# Altium schematic symbol library RF Amplifier.SchLib: 14 symbols
Pins are listed as number, name and electrical type; pins without a type are passive.

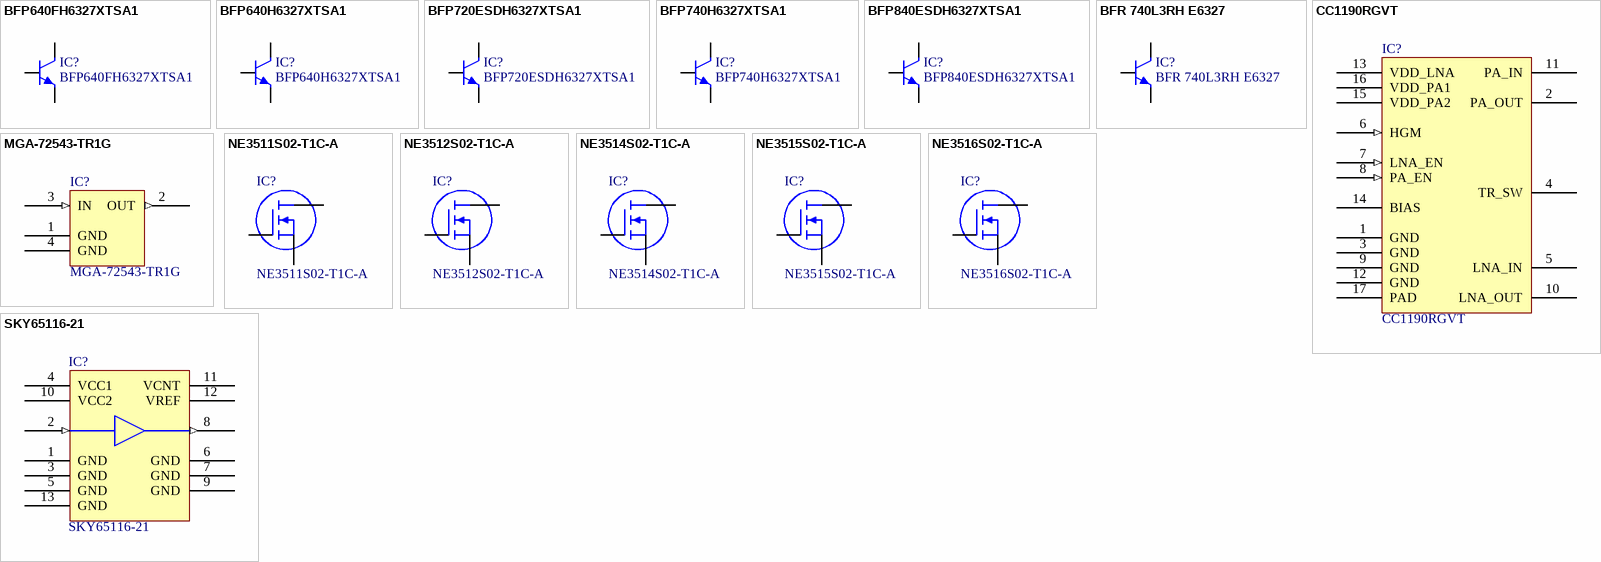
[diagram p0: symbols BFP640FH6327XTSA1 to SKY65116-21]

## BFP640FH6327XTSA1
designator IC?
TRANS RF NPN 4.5V 50MA 4TSFP; Manufacturer: Infineon Technologies; Power - Max: 200mW; Part Number: BFP640FH6327XTSA1; PartId: 9773; Supplier 1: Digi-Key; Supplier Part Number 1: BFP640FH6327XTSA1TR-ND; ComponentLink1Description: Datasheet; ComponentLink1URL: http://www.infineon.com/dgdl/bfp640f.pdf?folderId=db3a30431400ef68011425b291f205c5&fileId=db3a30431400ef6801142744b3d90716; ComponentLink2Description: Digi-Key Listing; ComponentLink2URL: http://www.digikey.com/product-detail/en/infineon-technologies/BFP640FH6327XTSA1/BFP640FH6327XTSA1TR-ND/2337784; Device Package: 4-SMD, Flat Leads; Price: 0.3659; Type: RF Transistors (BJT); Series: -
footprint INFINEON TSFP-4
pins: 1 B, 2 E, 3 C, 4 E

## BFP640H6327XTSA1
designator IC?
TRANS RF NPN 4V 50MA SOT343; Manufacturer: Infineon Technologies; Voltage - Collector Emitter Breakdown (Max): 4.5V; Frequency - Transition: 40GHz; Noise Figure (dB Typ @ f): 0.65dB ~ 1.2dB @ 1.8GHz ~ 6GHz; Gain: 12.5dB; Power - Max: 200mW; DC Current Gain (hFE)(min) @ Ic, Vce: 110 @ 30mA, 3V; Part Number: BFP640H6327XTSA1; PartId: 9774; Supplier 1: Digi-Key; Supplier Part Number 1: BFP640H6327XTSA1TR-ND; ComponentLink1Description: Datasheet; ComponentLink1URL: http://www.infineon.com/dgdl/bfp640.pdf?folderId=db3a30431400ef68011425b291f205c5&fileId=db3a30431400ef6801142747c1a1071d; ComponentLink2Description: Digi-Key Listing; ComponentLink2URL: http://www.digikey.com/product-detail/en/infineon-technologies/BFP640H6327XTSA1/BFP640H6327XTSA1TR-ND/2337782; Device Package: SC-82A, SOT-343; Price: 0.364; Type: RF Transistors (BJT); Series: -; Transistor Type: NPN; Current - Collector (Ic)(Max): 50mA
footprint INFINEON SOT-343-4
pins: 1 B, 2 E, 3 C, 4 E

## BFP720ESDH6327XTSA1
designator IC?
TRANS RF NPN 43GHZ 4.7V SOT343; Manufacturer: Infineon Technologies; Noise Figure (dB Typ @ f): 0.55dB ~ 1.55dB @ 150MHz ~ 10GHz; Gain: 11dB ~ 30.5dB; Power - Max: 100mW; DC Current Gain (hFE)(min) @ Ic, Vce: 160 @ 15mA, 3V; Current - Collector (Ic)(Max): 30mA; Part Number: BFP720ESDH6327XTSA1; PartId: 9775; Supplier 1: Digi-Key; Supplier Part Number 1: BFP720ESDH6327XTSA1TR-ND; ComponentLink1Description: Datasheet; ComponentLink1URL: http://media.digikey.com/pdf/Data%20Sheets/Infineon%20PDFs/BFP720ESD.pdf; ComponentLink2Description: Digi-Key Listing; ComponentLink2URL: http://www.digikey.com/product-detail/en/infineon-technologies/BFP720ESDH6327XTSA1/BFP720ESDH6327XTSA1TR-ND/2409952; Device Package: SC-82A, SOT-343; Price: 0.378; Type: RF Transistors (BJT); Series: -; Transistor Type: NPN; Voltage - Collector Emitter Breakdown (Max): 4.7V; Frequency - Transition: 43GHz
footprint INFINEON SOT-343-4
pins: 1 B, 2 E, 3 C, 4 E

## BFP740H6327XTSA1
designator IC?
TRANS RF NPN 42GHZ 4.7V SOT343; Manufacturer: Infineon Technologies; Noise Figure (dB Typ @ f): 0.5dB ~ 0.85dB @ 1.8GHz ~ 6GHz; Gain: 27dB; Power - Max: 160mW; DC Current Gain (hFE)(min) @ Ic, Vce: 160 @ 25mA, 3V; Current - Collector (Ic)(Max): 30mA; Part Number: BFP740H6327XTSA1; PartId: 9776; Supplier 1: Digi-Key; Supplier Part Number 1: BFP740H6327XTSA1TR-ND; ComponentLink1Description: Datasheet; ComponentLink1URL: http://www.infineon.com/dgdl/bfp740.pdf?folderId=db3a30431400ef68011425b291f205c5&fileId=db3a30431400ef6801142740c849070c; ComponentLink2Description: Digi-Key Listing; ComponentLink2URL: http://www.digikey.com/product-detail/en/infineon-technologies/BFP740H6327XTSA1/BFP740H6327XTSA1TR-ND/2410206; Device Package: SC-82A, SOT-343; Price: 0.3335; Type: RF Transistors (BJT); Series: -; Transistor Type: NPN; Voltage - Collector Emitter Breakdown (Max): 4.7V; Frequency - Transition: 42GHz
footprint INFINEON SOT-343-4
pins: 1 B, 2 E, 3 C, 4 E

## BFP840ESDH6327XTSA1
designator IC?
IC TRANSISTOR RF NPN SOT343-4; Manufacturer: Infineon Technologies; Voltage - Collector Emitter Breakdown (Max): 2.25V; Frequency - Transition: 80GHz; Noise Figure (dB Typ @ f): 0.85dB @ 5.5GHz; Gain: 18.5dB; Power - Max: 75mW; DC Current Gain (hFE)(min) @ Ic, Vce: 150 @ 10mA, 1.8V; Current - Collector (Ic)(Max): 35mA; Part Number: BFP840ESDH6327XTSA1; PartId: 9777; Supplier 1: Digi-Key; Supplier Part Number 1: BFP840ESDH6327XTSA1TR-ND; ComponentLink1Description: Datasheet; ComponentLink1URL: http://www.infineon.com/dgdl/Infineon_Robust_WiFi_SiGe_LNA_BFP840ESD_Rev1_1.pdf?folderId=db3a30431f848401011fcbf2ab4c04c4&fileId=db3a304336ca04c90136e88a4d5f35b7; ComponentLink2Description: Digi-Key Listing; ComponentLink2URL: http://www.digikey.com/product-detail/en/infineon-technologies/BFP840ESDH6327XTSA1/BFP840ESDH6327XTSA1TR-ND/3911479; Device Package: SC-82A, SOT-343; Price: 0.216; Type: RF Transistors (BJT); Series: -; Transistor Type: NPN
footprint INFINEON SOT-343-4
pins: 1 B, 2 E, 3 C, 4 E

## BFR 740L3RH E6327
designator IC?
TRANS RF BIPO NPN 30MA TSLP-3; Manufacturer: Infineon Technologies; Voltage - Collector Emitter Breakdown (Max): 4.7V; Frequency - Transition: 42GHz; Noise Figure (dB Typ @ f): 0.5dB ~ 0.8dB @ 1.8GHz ~ 6Ghz; Gain: 24.5dB; Power - Max: 160mW; DC Current Gain (hFE)(min) @ Ic, Vce: 160 @ 25mA, 3V; Part Number: BFR 740L3RH E6327; PartId: 9778; Supplier 1: Digi-Key; Supplier Part Number 1: BFR740L3RHE6327INTR-ND; ComponentLink1Description: Datasheet; ComponentLink1URL: http://www.infineon.com/dgdl/bfr740l3rh.pdf?folderId=db3a30431400ef68011425b291f205c5&fileId=db3a30431400ef680114273ae8030703; ComponentLink2Description: Digi-Key Listing; ComponentLink2URL: http://www.digikey.com/product-detail/en/infineon-technologies/BFR%20740L3RH%20E6327/BFR740L3RHE6327INTR-ND/1287615; Device Package: SC-101, SOT-883; Price: 0.299; Type: RF Transistors (BJT); Series: -; Transistor Type: NPN; Current - Collector (Ic)(Max): 30mA
footprint INFINEON TSLP-3-9
pins: 1 B, 2 C, 3 E

## CC1190RGVT
designator IC?
IC RF FRONT-END 16VQFN; Manufacturer: Texas Instruments; Frequency - Transition: 850MHz ~ 950MHz; Part Number: CC1190RGVT; PartId: 9772; Supplier 1: Digi-Key; Supplier Part Number 1: 296-25826-2-ND; ComponentLink1Description: Datasheet; ComponentLink1URL: http://www.ti.com/lit/ds/symlink/cc1190.pdf; ComponentLink2Description: Digi-Key Listing; ComponentLink2URL: http://www.digikey.com/product-detail/en/texas-instruments/CC1190RGVT/296-25826-2-ND/2236844; Device Package: 16-VQFN Exposed Pad; Price: 2.3828; Type: RF Front End (LNA + PA); Series: -
footprint TI PVQFN-16 4x4MM RSA
pins: 1 GND "Desc1", 2 PA_OUT "Desc1", 3 GND "Desc1", 4 TR_SW "Desc1", 5 LNA_IN "Desc1", 6 HGM (in) "Desc1", 7 LNA_EN (in) "Desc1", 8 PA_EN (in) "Desc1", 9 GND "Desc1", 10 LNA_OUT "Desc1", 11 PA_IN "Desc1", 12 GND "Desc1", 13 VDD_LNA "Desc1", 14 BIAS "Desc1", 15 VDD_PA2 "Desc1", 16 VDD_PA1 "Desc1", 17 PAD "Desc1"

## MGA-72543-TR1G
designator IC?
IC AMP MMIC LNA GAAS 3V SOT-343; Manufacturer: Broadcom Limited; Frequency - Transition: 100MHz ~ 6GHz; Part Number: MGA-72543-TR1G; PartId: 9757; Supplier 1: Digi-Key; Supplier Part Number 1: 516-1829-2-ND; ComponentLink1Description: Datasheet; ComponentLink1URL: http://www.avagotech.com/docs/AV02-1296EN; ComponentLink2Description: Digi-Key Listing; ComponentLink2URL: http://www.digikey.com/product-detail/en/broadcom-limited/MGA-72543-TR1G/516-1829-2-ND/1235202; Device Package: SC-82A, SOT-343; Price: 1.1988; Series: -
footprint BROADCOM SOT-343
pins: 1 GND "Desc1", 2 OUT (out) "Desc1", 3 IN (in) "Desc1", 4 GND "Desc1"

## NE3511S02-T1C-A
designator IC?
IC AMP RF LNA 13.5DB S02; Manufacturer: CEL; Transistor Type: HFET; Frequency - Transition: 12GHz; Noise Figure (dB Typ @ f): 0.3dB; Part Number: NE3511S02-T1C-A; PartId: 9793; Supplier 1: Digi-Key; Supplier Part Number 1: NE3511S02-T1C-ATR-ND; ComponentLink1Description: Datasheet; ComponentLink1URL: http://www.cel.com/pdf/datasheets/ne3511S02.pdf; ComponentLink2Description: Digi-Key Listing; ComponentLink2URL: https://www.digikey.com/product-detail/en/cel/NE3511S02-T1C-A/NE3511S02-T1C-ATR-ND/2751027; Device Package: 4-SMD, Flat Leads; Price: 1.134; Series: -; Gain: 13.5dB
footprint CEL S02
pins: 1 S, 2 D, 3 S, 4 G

## NE3512S02-T1C-A
designator IC?
HJ-FET NCH 13.5DB S02; Manufacturer: CEL; Transistor Type: HFET; Frequency - Transition: 12GHz; Noise Figure (dB Typ @ f): 0.35dB; Part Number: NE3512S02-T1C-A; PartId: 9791; Supplier 1: Digi-Key; Supplier Part Number 1: NE3512S02-T1C-ATR-ND; ComponentLink1Description: Datasheet; ComponentLink1URL: http://www.cel.com/pdf/datasheets/NE3512S02.pdf; ComponentLink2Description: Digi-Key Listing; ComponentLink2URL: https://www.digikey.com/product-detail/en/cel/NE3512S02-T1C-A/NE3512S02-T1C-ATR-ND/1135149; Device Package: 4-SMD, Flat Leads; Price: 0.574; Series: -; Gain: 13.5dB
footprint CEL S02
pins: 1 S, 2 D, 3 S, 4 G

## NE3514S02-T1C-A
designator IC?
HJ-FET NCH 10DB S02; Manufacturer: CEL; Transistor Type: HFET; Frequency - Transition: 20GHz; Noise Figure (dB Typ @ f): 0.75dB; Part Number: NE3514S02-T1C-A; PartId: 9794; Supplier 1: Digi-Key; Supplier Part Number 1: NE3514S02-T1C-A-ND; ComponentLink1Description: Datasheet; ComponentLink1URL: http://www.cel.com/pdf/datasheets/NE3514S02.pdf; ComponentLink2Description: Digi-Key Listing; ComponentLink2URL: https://www.digikey.com/product-detail/en/cel/NE3514S02-T1C-A/NE3514S02-T1C-A-ND/1135151; Device Package: 4-SMD, Flat Leads; Price: 0.918; Series: -; Gain: 10dB
footprint CEL S02
pins: 1 S, 2 D, 3 S, 4 G

## NE3515S02-T1C-A
designator IC?
FET RF HFET 12GHZ 2V 10MA S02; Manufacturer: CEL; Noise Figure (dB Typ @ f): 0.3dB; Gain: 12.5dB; Part Number: NE3515S02-T1C-A; PartId: 9792; Supplier 1: Digi-Key; Supplier Part Number 1: NE3515S02-T1C-ATR-ND; ComponentLink1Description: Datasheet; ComponentLink1URL: http://www.cel.com/pdf/datasheets/ne3515S02.pdf; ComponentLink2Description: Digi-Key Listing; ComponentLink2URL: https://www.digikey.com/product-detail/en/cel/NE3515S02-T1C-A/NE3515S02-T1C-ATR-ND/2751028; Device Package: 4-SMD, Flat Leads; Price: 1.2015; Series: -; Transistor Type: HFET; Frequency - Transition: 12GHz
footprint CEL S02
pins: 1 S, 2 D, 3 S, 4 G

## NE3516S02-T1C-A
designator IC?
IC HJ-FET RF N-CH S02 4-MICROX; Manufacturer: CEL; Transistor Type: N-Channel GaAs HJ-FET; Frequency - Transition: 12GHz; Noise Figure (dB Typ @ f): 0.35dB; Gain: 14dB; Part Number: NE3516S02-T1C-A; PartId: 9795; Supplier 1: Digi-Key; Supplier Part Number 1: NE3516S02-T1C-A-ND; ComponentLink1Description: Datasheet; ComponentLink1URL: http://www.cel.com/pdf/datasheets/ne3516s02.pdf; ComponentLink2Description: Digi-Key Listing; ComponentLink2URL: https://www.digikey.com/product-detail/en/cel/NE3516S02-T1C-A/NE3516S02-T1C-A-ND/3728633; Device Package: 4-SMD, Flat Leads; Price: 0.918; Series: -
footprint CEL S02
pins: 1 S, 2 D, 3 S, 4 G

## SKY65116-21
designator IC?
IC AMP LINEAR 390-500MHZ 12-MCM; Manufacturer: Skyworks Solutions Inc.; Frequency - Transition: 390MHz ~ 500MHz; Part Number: SKY65116-21; PartId: 9756; Supplier 1: Digi-Key; Supplier Part Number 1: 863-1072-2-ND; ComponentLink1Description: Datasheet; ComponentLink1URL: http://www.skyworksinc.com/uploads/documents/SKY65116_200510I.pdf; ComponentLink2Description: Digi-Key Listing; ComponentLink2URL: http://www.digikey.com/product-detail/en/skyworks-solutions-inc/SKY65116-21/863-1072-2-ND/2052082; Device Package: 12-SMD Module; Price: 4.569; Series: -
footprint SKY65116 (QFN, 12-Leads, Body 8.4x8.4mm (max), Pitch 1.91mm, IPC High Density)
footprint SKYWORKS MCM-12 8.4x8.4mm
pins: 1 GND "Desc1", 2 IN (in) "Desc1", 3 GND "Desc1", 4 VCC1 "Desc1", 5 GND "Desc1", 6 GND "Desc1", 7 GND "Desc1", 8 OUT (out) "Desc1", 9 GND "Desc1", 10 VCC2 "Desc1", 11 VCNT "Desc1", 12 VREF "Desc1", 13 GND "Desc1"